# EAGLE library part SMF05C (library X893)
5?line voltage transient suppressor array
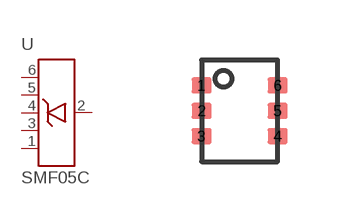
[diagram p2: symbol with the pads of SC88; footprint SC88]

Designator prefix U

## SMF05C  [SC88]
1  C1  pas
2  GND  pwr
3  C2  pas
4  C3  pas
5  C4  pas
6  C5  pas

## Footprint SC88 (pad centres in mm)
smd 0.5 x 0.399: 1 -0.95,0.635; 2 -0.95,0; 3 -0.95,-0.635; 4 0.95,-0.635; 5 0.95,0; 6 0.95,0.635